# Altium schematic symbol library VSS-Misc.SchLib: 1 symbol
Pins are listed as number, name and electrical type; pins without a type are passive.

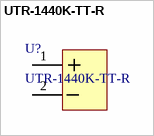
[diagram p0: symbol UTR-1440K-TT-R]

## UTR-1440K-TT-R
designator U?
Ultrasonic Transmitter/Receiver 40000Hz 2-Pin; Manufacturer: Projects Unlimited; Supplier: Mouser; Supplier Part Number: 665-UTR1440KTTR; Manufacturer Part Number: UTR-1440K-TT-R; RoHS: No; Stock: 104; Pricing: 1=5,54, 10=5,27, 50=5,25, 100=5,25, 1000=5,25, 10000=5,25 (USD); ComponentLink1URL: https://media.digikey.com/pdf/Data%20Sheets/Projects%20Unlimited%20PDFs/UTR-1440K-TT-R_Tech_Info.pdf?src-supplier=Digikey; ComponentLink1Description: https://media.digikey.com/pdf/Data%20Sheets/Projects%20Unlimited%20PDFs/UTR-1440K-TT-R_Tech_Info.pdf?src-supplier=Digikey
footprint UTR-1440K-TT-R
pins: 1, 2